# EAGLE library part OV7670_CAMERA (library hw6library_Ian)
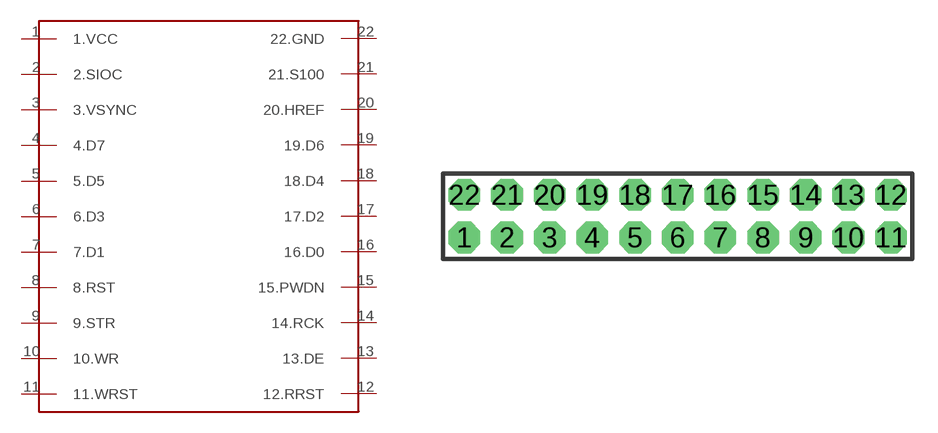
[diagram p11: symbol with the pads of OV7870_CAMERA; footprint OV7870_CAMERA]

Designator prefix -

## OV7670_CAMERA  [OV7870_CAMERA]
1  1.VCC
2  2.SIOC
3  3.VSYNC
4  4.D7
5  5.D5
6  6.D3
7  7.D1
8  8.RST
9  9.STR
10  10.WR
11  11.WRST
12  12.RRST
13  13.DE
14  14.RCK
15  15.PWDN
16  16.D0
17  17.D2
18  18.D4
19  19.D6
20  20.HREF
21  21.S100
22  22.GND

## Footprint OV7870_CAMERA (pad centres in mm)
drill 1.016 pad 1.88 octagon: 1 -12.7,-1.27; 2 -10.16,-1.27; 3 -7.62,-1.27; 4 -5.08,-1.27; 5 -2.54,-1.27; 6 0,-1.27; 7 2.54,-1.27; 8 5.08,-1.27; 9 7.62,-1.27; 10 10.16,-1.27; 11 12.7,-1.27; 12 12.7,1.27; 13 10.16,1.27; 14 7.62,1.27; 15 5.08,1.27; 16 2.54,1.27; 17 0,1.27; 18 -2.54,1.27; 19 -5.08,1.27; 20 -7.62,1.27; 21 -10.16,1.27; 22 -12.7,1.27